# EAGLE library part L298 (library PowerICs)
L298 Dual Full Bridge Motor Driver IC. PowerSO20 Package. Layout Not Verified!!
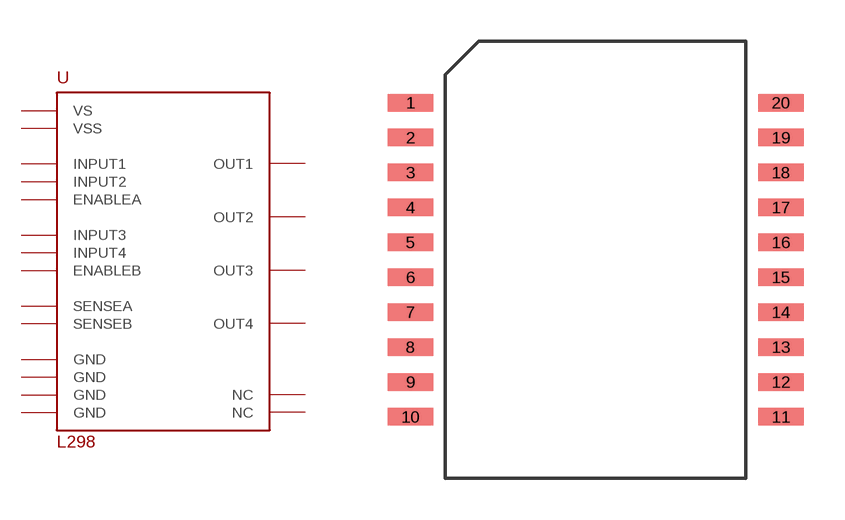
[diagram p0: symbol with the pads of POWERSO20; footprint POWERSO20]

Designator prefix U

## L298 (DIGIKEYPART#: 497-3624-1-ND)  [POWERSO20]
1  GND
2  SENSEA
3  NC
4  OUT1
5  OUT2
6  VS
7  INPUT1
8  ENABLEA
9  INPUT2
10  GND
11  GND
12  VSS
13  INPUT3
14  ENABLEB
15  INPUT4
16  OUT3
17  OUT4
18  NC
19  SENSEB
20  GND

## Footprint POWERSO20 (pad centres in mm)
PowerSO20 Package
smd 1.651 x 0.635: 1 -6.731,5.715; 2 -6.731,4.445; 3 -6.731,3.175; 4 -6.731,1.905; 5 -6.731,0.635; 6 -6.731,-0.635; 7 -6.731,-1.905; 8 -6.731,-3.175; 9 -6.731,-4.445; 10 -6.731,-5.715; 11 6.731,-5.715; 12 6.731,-4.445; 13 6.731,-3.175; 14 6.731,-1.905; 15 6.731,-0.635; 16 6.731,0.635; 17 6.731,1.905; 18 6.731,3.175; 19 6.731,4.445; 20 6.731,5.715